# EAGLE library part USB-C (library mullac)
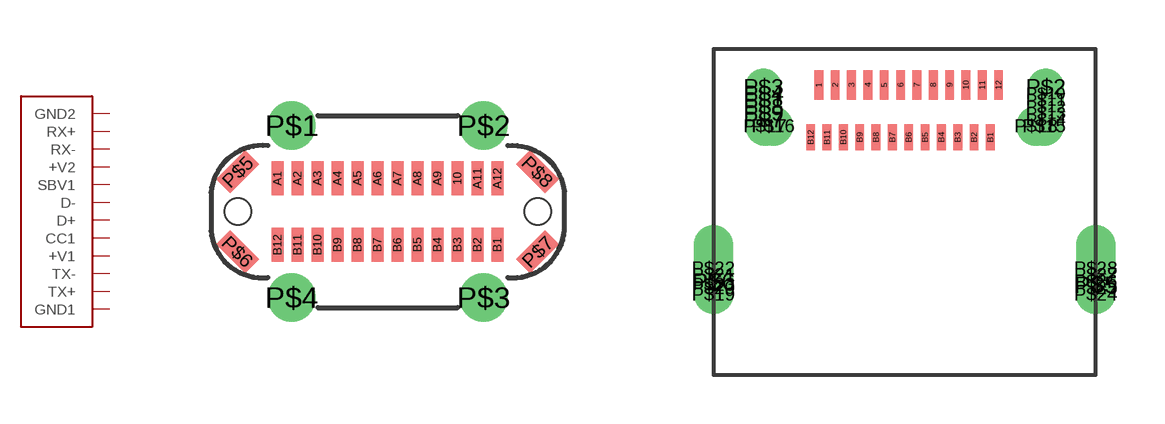
[diagram p12: symbol with the pads of USB-C-VERTICAL; footprints USB-C-VERTICAL, USB-TYPE-C-SMT]

Designator prefix -

## USB-CVERTICAL  [USB-C-VERTICAL]
10  RX-
A1  GND1
A2  TX+
A3  TX-
A4  +V1
A5  CC1
A6  D+
A7  D-
A8  SBV1
A9  +V2
A11  RX+
A12  GND2
B1  GND1
B2  TX+
B3  TX-
B4  +V1
B5  CC1
B6  D+
B7  D-
B8  SBV1
B9  +V2
B10  RX-
B11  RX+
B12  GND2

## USB-CHORIZONTAL  [USB-TYPE-C-SMT]
1  GND1
2  TX+
3  TX-
4  +V1
5  CC1
6  D+
7  D-
8  SBV1
9  +V2
10  RX-
11  RX+
12  GND2
B1  GND1
B2  TX+
B3  TX-
B4  +V1
B5  CC1
B6  D+
B7  D-
B8  SBV1
B9  +V2
B10  RX-
B11  RX+
B12  GND2

## Footprint USB-C-VERTICAL (pad centres in mm)
smd 0.3 x 0.85: 10 1.75,0.83; A1 -2.75,0.83; A2 -2.25,0.83; A3 -1.75,0.83; A4 -1.25,0.83; A5 -0.75,0.83; A6 -0.25,0.83; A7 0.25,0.83; A8 0.75,0.83; A9 1.25,0.83; A11 2.25,0.83; A12 2.75,0.83; B1 2.75,-0.83; B2 2.25,-0.83; B3 1.75,-0.83; B4 1.25,-0.83; B5 0.75,-0.83; B6 0.25,-0.83; B7 -0.25,-0.83; B8 -0.75,-0.83; B9 -1.25,-0.83; B10 -1.75,-0.83; B11 -2.25,-0.83; B12 -2.75,-0.83
drill 0.7 pad 1.1: P$1 -2.4,2.15; P$2 2.4,2.15; P$3 2.4,-2.15; P$4 -2.4,-2.15
smd 0.5 x 1.03 rotated 135: P$5 -3.75,1; P$7 3.75,-1
smd 0.5 x 1.03 rotated 45: P$6 -3.75,-1; P$8 3.75,1
hole 0.66 at 3.75,0
hole 0.66 at -3.75,0

## Footprint USB-TYPE-C-SMT (pad centres in mm)
smd 0.27 x 0.9: 1 -2.625,0.7; 2 -2.125,0.7; 3 -1.625,0.7; 4 -1.125,0.7; 5 -0.625,0.7; 6 -0.125,0.7; 7 0.375,0.7; 8 0.875,0.7; 9 1.375,0.7; 10 1.875,0.7; 11 2.375,0.7; 12 2.875,0.7
smd 0.27 x 0.8: B1 2.625,-0.9; B2 2.125,-0.9; B3 1.625,-0.9; B4 1.125,-0.9; B5 0.625,-0.9; B6 0.125,-0.9; B7 -0.375,-0.9; B8 -0.875,-0.9; B9 -1.375,-0.9; B10 -1.875,-0.9; B11 -2.375,-0.9; B12 -2.875,-0.9
drill 0.6: P$1 -4.32,0.25; P$2 4.32,0.65; P$3 -4.32,0.65; P$4 -4.32,0.45; P$7 -4.32,-0.35; P$8 -4.32,0.05; P$9 -4.32,-0.15; P$10 4.32,0.45; P$11 4.32,0.25; P$12 4.32,0.05; P$13 4.32,-0.15; P$14 4.32,-0.35
drill 0.7 offset: P$5 5.85,-5.4; P$23 -5.85,-5.4
drill 0.7: P$6 -5.85,-5.3; P$15 4.27,-0.55; P$16 -4.02,-0.55; P$17 -4.27,-0.55; P$18 4.02,-0.55; P$19 -5.85,-5.7; P$20 -5.85,-5.5; P$21 -5.85,-5.1; P$22 -5.85,-4.9; P$24 5.85,-5.7; P$25 5.85,-5.5; P$26 5.85,-5.3; P$27 5.85,-5.1; P$28 5.85,-4.9